# Altium footprint library WISP_AD10.PcbLib: 83 footprints (part 4 of 6)
Each footprint in its own frame and in the unit in brackets; x right, y up, seen from the top. Pads: shape width x height; smd on the part's side, far side on the other; paste and mask are expansions set on the pad; w line width, h text height; cw(c..) or ccw(c..) is an arc to the next point about the centre after c.
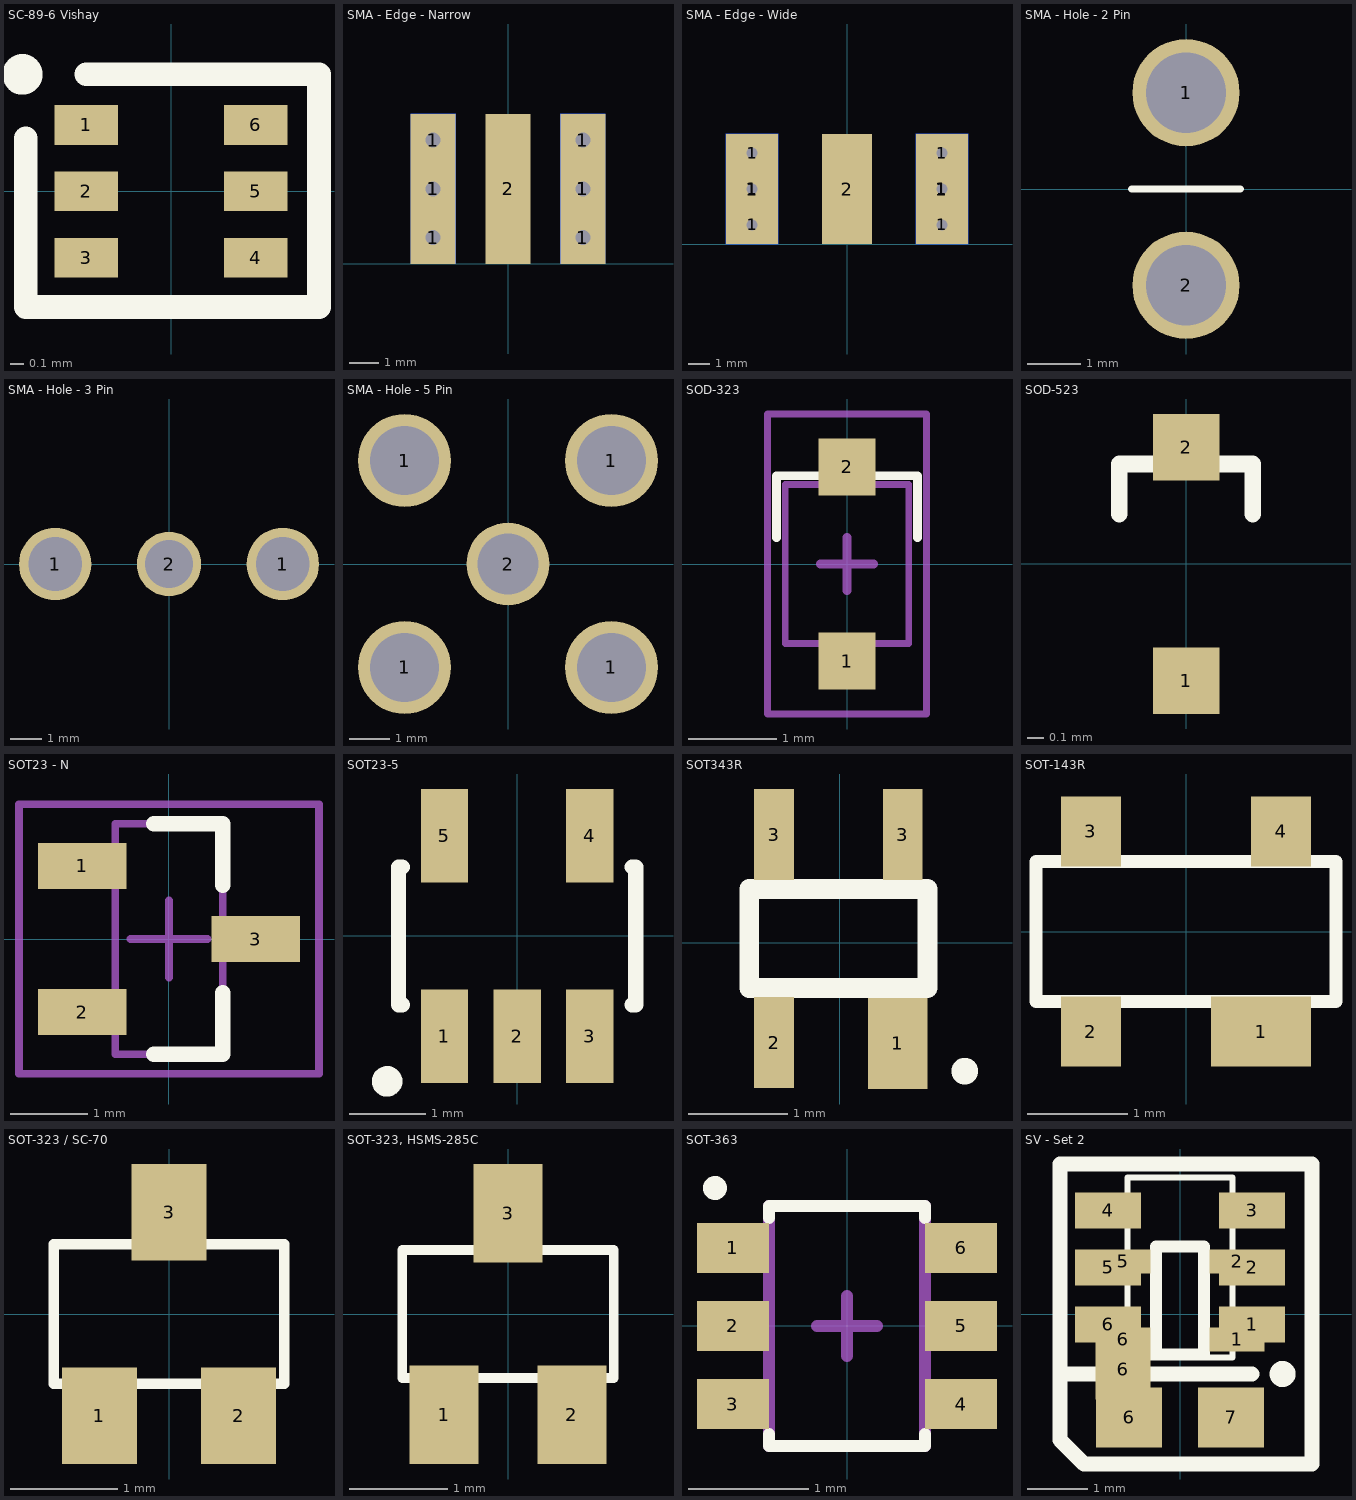
[diagram p3: the footprints below, top view; thin cyan lines are the x and y axes]

## SC-89-6 Vishay [mm]
pads (6):
  rect 0.478x0.3 smd: 1(-0.638,0.5) 2(-0.638,0) 3(-0.638,-0.5) 4(0.638,-0.5) 5(0.638,0) 6(0.638,0.5)
Top Overlay:
  circle w0.254: c-1.121,0.881 r0.025
  lines w0.178: -1.095,0.398 -1.095,-0.872 1.115,-0.872 1.115,0.881 -0.638,0.881

## SMA - Edge - Narrow [mil] "SMA - Board Edge Connector, Narrow body = 0.25in"
height 5
pads (11):
  round 38 hole 20: 1(-100,35) 1(-100,100) 1(-100,165) 1(100,35) 1(100,100) 1(100,165)
  rect 60x200 smd: 1(-100,100) 1(100,100) 2(0,100)
  rect 60x200 smd far side: 1(-100,100) 1(100,100)
3D body: height 150.2, standoff -99.8, extent -125,-377.95 125,146.85

## SMA - Edge - Wide [mil] "SMA - Board Edge Connector, Wide Body = .375in, no gnd pad"
height 5
pads (11):
  round 38 hole 20: 1(-172.5,35) 1(-172.5,100) 1(-172.5,165) 1(172.5,35) 1(172.5,100) 1(172.5,165)
  rect 95x200 smd: 1(-172.5,100) 1(172.5,100)
  rect 95x200 smd far side: 1(-172.5,100) 1(172.5,100)
  rect 90x200 smd: 2(0,100)

## SMA - Hole - 2 Pin [mm] "SMA port for wisp"
pads (2):
  round 2 hole 1.5: 1(0,1.796) 2(0,-1.796)
Top Overlay:
  lines w0.127: -1.016,0 1.016,0

## SMA - Hole - 3 Pin [mil] "SMA Through Hole Connector 3 pins"
pads (3):
  round 90 hole 67: 1(-141.42,0) 1(141.42,0)
  round 80 hole 59.06: 2(0,0)

## SMA - Hole - 5 Pin [mil] "SMA Through Hole Connector"
pads (5):
  round 90 hole 67: 1(-100,-100) 1(-100,100) 1(100,-100) 1(100,100)
  round 80 hole 59.06: 2(0,0)

## SOD-323 [mm] "SOD-322 Footprint"
height 1
pads (2):
  rect 0.65x0.65 smd: 1(0,-1.1) 2(0,1.1)
Top Overlay:
  lines w0.1: -0.8,0.3 -0.8,1 0.8,1 0.8,0.3
Mechanical 13:
  lines w0.076: -0.7,-0.9 -0.7,0.9 0.7,0.9 0.7,-0.9 -0.7,-0.9
  text ".Designator" at -0.254,0.762 h0.51
Mechanical 15:
  lines w0.076: -0.9,-1.7 -0.9,1.7 0.9,1.7 0.9,-1.7 -0.9,-1.7
  lines w0.1: -0.3,0 0.3,0 ; 0,-0.3 0,0.3
3D body: height 1, standoff 0, extent -0.7,-0.9 0.7,0.9

## SOD-523 [mm] "SOD-523 Footprint"
height 1
pads (2):
  rect 0.4x0.4 smd: 1(0,-0.7) 2(0,0.7)
Top Overlay:
  lines w0.1: -0.401,0.3 -0.401,0.6 0.399,0.6 0.399,0.3
3D body: height 1, standoff 0, extent -0.4,-0.6 0.4,0.6

## SOT23 - N [mm] "SOT23, 3-Leads, Body 2.9x1.3mm, Pitch 0.95mm, Lead Span 2.3mm - Reverse Pinning, IPC Medium Density"
height 1.1
pads (3):
  rect 1.15x0.6 smd: 1(-1.125,0.95) 2(-1.125,-0.95) 3(1.125,0)
Top Overlay:
  lines w0.2: -0.2,-1.5 0.7,-1.5 0.7,-0.7 ; -0.2,1.5 0.7,1.5 0.7,0.7
Mechanical 13:
  lines w0.1: -0.7,-1.5 0.7,-1.5 0.7,1.5 -0.7,1.5 -0.7,-1.5
Mechanical 15:
  lines w0.1: -0.5,0 0.5,0 ; 0,-0.5 0,0.5 ; -1.95,-1.75 1.95,-1.75 1.95,1.75 -1.95,1.75 -1.95,-1.75
3D body: height 1.1, standoff 0, extent -0.7,-1.5 0.7,1.5

## SOT23-5 [mm] "SOT23-5"
height 1.27
pads (5):
  rect 0.62x1.22 smd: 1(-0.95,-1.31) 2(0,-1.31) 3(0.95,-1.31) 4(0.95,1.31) 5(-0.95,1.31)
Top Overlay:
  circle w0.2: c-1.7,-1.9 r0.1
  lines w0.2: -1.5,-0.9 -1.55,-0.9 -1.55,0.9 -1.5,0.9 ; 1.5,-0.9 1.55,-0.9 1.55,0.9 1.5,0.9
3D body: height 1, standoff 0, extent -1.55,-0.9 1.55,0.9

## SOT343R [mm] "SOT343R - Package for BF1101WR"
height 1.1
pads (4):
  rect 0.6x0.92 smd: 1(0.584,-1.016)
  rect 0.4x0.92 smd: 2(-0.664,-1.007) 3(-0.664,1.093) 3(0.636,1.093)
Top Overlay:
  circle w0.254: c1.262,-1.295 r0.008
  lines w0.2: -0.914,-0.457 -0.914,0.543 0.886,0.543 0.886,-0.457 -0.914,-0.457
Mechanical 13:
  circle w0.1: c0.584,-1.016 r0.051
  lines w0.1: -0.914,-0.457 -0.914,0.543 0.886,0.543 0.886,-0.457 -0.914,-0.457
  text ".Designator" at 0.7,0.3 h0.51
3D body: height 1.1, standoff 0, extent -0.914,-0.457 0.886,0.543

## SOT-143R [mm] "SOT-143R for BF1105R"
height 1.1
pads (4):
  rect 1x0.7 smd: 1(0.75,-1)
  rect 0.6x0.7 smd: 2(-0.95,-1) 3(-0.95,1) 4(0.95,1)
Top Overlay:
  lines w0.127: -1.5,-0.7 1.5,-0.7 1.5,0.7 -1.5,0.7 -1.5,-0.7
Mechanical 13:
  circle w0.254: c0.75,-1 r0.025
  lines w0.1: -1.5,-0.7 -1.5,0.7 1.5,0.7 1.5,-0.7 -1.5,-0.7
  text ".Designator" at -1.3,-0.2 h0.51
3D body: height 1.1, standoff 0, extent -1.5,-0.7 1.5,0.7

## SOT-323 / SC-70 [mm] "SOT-323 / SC-70; 3 Lead Package"
height 1
pads (3):
  rect 0.7x0.9 smd: 1(-0.65,-0.95) 2(0.65,-0.95) 3(0,0.95)
Top Overlay:
  lines w0.1: -1.075,-0.65 -1.075,0.65 1.075,0.65 1.075,-0.65 -1.075,-0.65
Mechanical 13:
  circle w0.1: c-0.65,-0.95 r0.042
  text ".Designator" at -0.85,-0.25 h0.51
3D body: height 1, standoff 0, extent -1.075,-0.65 1.075,0.65

## SOT-323, HSMS-285C [mm] "SOT-323/SC-70; 3 Leads; HSMS-285C"
height 1
pads (3):
  rect 0.7x1 smd: 1(-0.65,-1.025) 2(0.65,-1.025) 3(0,1.025)
Top Overlay:
  lines w0.1: -1.075,-0.65 -1.075,0.65 1.075,0.65 1.075,-0.65 -1.075,-0.65
3D body: height 1, standoff 0, extent -1.075,-0.65 1.075,0.65

## SOT-363 [mm] "SOT-363 ,SC-88 ,6 Lead"
height 1
pads (6):
  rect 0.6x0.42 smd: 1(-0.95,0.65) 2(-0.95,0) 3(-0.95,-0.65) 4(0.95,-0.65) 5(0.95,0) 6(0.95,0.65)
Top Overlay:
  circle w0.1: c-1.1,1.15 r0.05
  lines w0.1: -0.65,-0.9 -0.65,-1 0.65,-1 0.65,-0.9 ; -0.65,0.9 -0.65,1 0.65,1 0.65,0.9
Mechanical 13:
  circle w0.1: c-0.95,0.65 r0.05
  lines w0.1: -0.65,-1 -0.65,1 0.65,1 0.65,-1 -0.65,-1
  text ".Designator" at -0.25,0.8 h0.51
Mechanical 15:
  lines w0.1: -0.25,0 0.25,0 ; 0,-0.25 0,0.25
3D body: height 1, standoff 0, extent -0.65,-1 0.65,1

## SV - Set 2 [mm] "S-1000 (SOT-23-5, SC-82);  S1009 (SOT-23-5);  XC61C (SC-82, SOT-23);  NCP300 (SOT-23-5)"
pads (13):
  rect 0.92x0.4 smd: 1(0.95,-0.425) 2(0.95,0.875) 5(-0.95,0.875) 6(-0.95,-0.425)
  rect 1.1x0.6 smd: 1(1.2,-0.175) 2(1.2,0.775) 3(1.2,1.725) 4(-1.2,1.725) 5(-1.2,0.775) 6(-1.2,-0.175)
  rect 0.92x1 smd: 6(-0.95,-0.925)
  rect 1.1x1 smd: 6(-0.85,-1.725) 7(0.85,-1.725)
Top Overlay:
  circle w0.254: c1.71,-1 r0.09
  lines w0.1: -0.875,-0.725 -0.875,2.275 0.875,2.275 0.875,-0.725 -0.875,-0.725
  lines w0.2: 0.4,-0.675 -0.4,-0.675 -0.4,1.125 0.4,1.125 0.4,-0.675
  lines w0.254: -2,-1 1.2,-1 ; -2,-2.1 -2,2.5 2.2,2.5 2.2,-2.5 -1.6,-2.5 -2,-2.1